# Altium schematic symbol library Ultrasonic Header.SchLib: 1 symbol
Pins are listed as number, name and electrical type; pins without a type are passive.

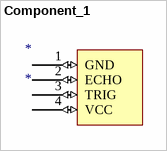
[diagram p0: symbol Component_1]

## Component_1
designator *
footprint PCBComponent_1
pins: 1 GND (io), 2 ECHO (io), 3 TRIG (io), 4 VCC (io)